# Altium schematic symbol library Schlib1.SchLib: 2 symbols
Pins are listed as number, name and electrical type; pins without a type are passive.

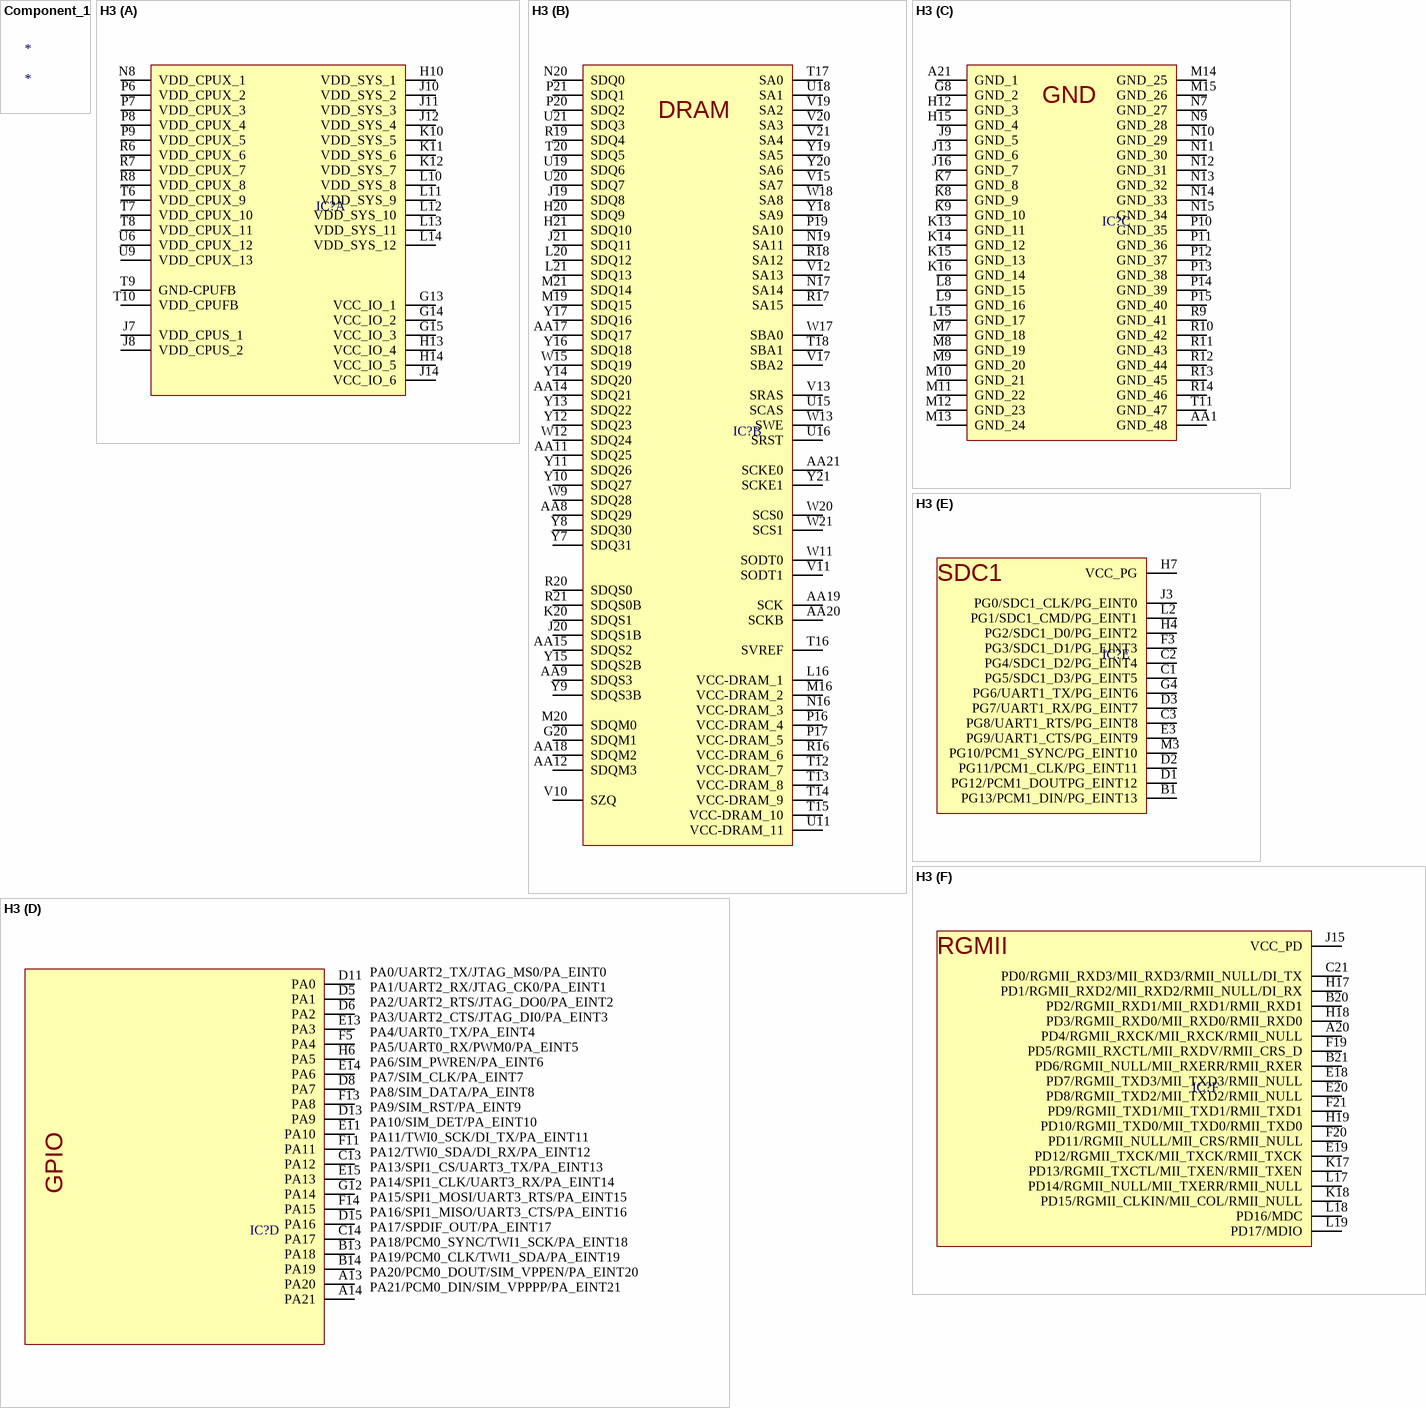
[diagram p0: symbols Component_1 to H3]

## Component_1
designator *

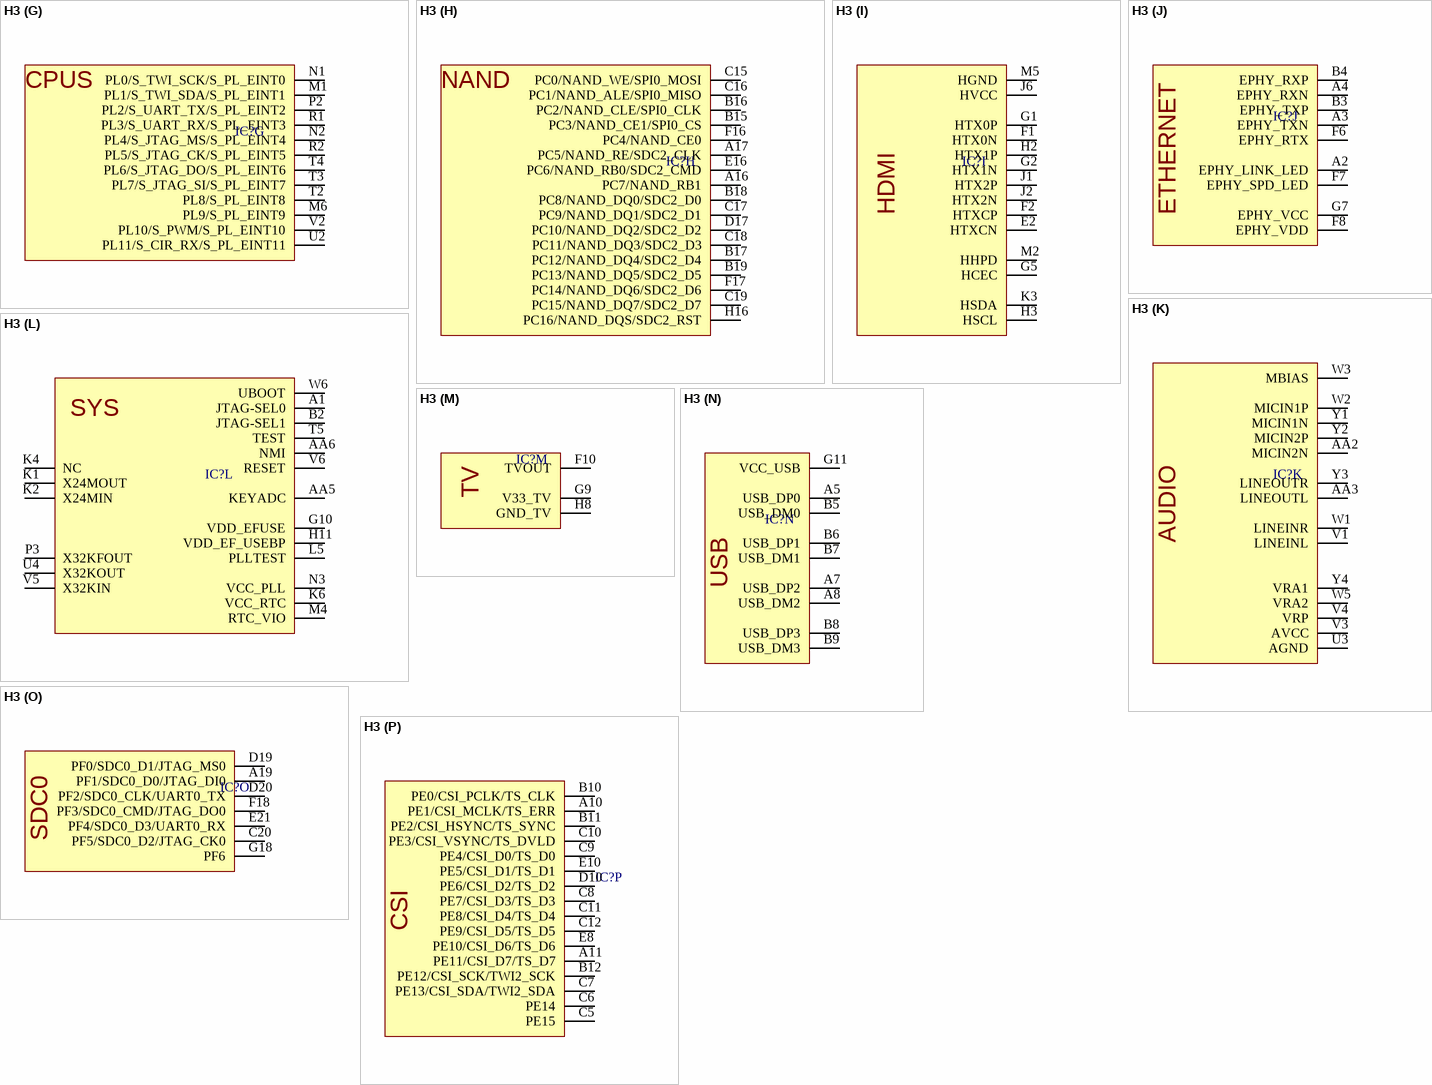
[diagram p1: symbol H3]

## H3
designator IC?
Integrated Circuit; Manufacturer_Name: Allwinner Technology; Datasheet Link: https://wiki.friendlyelec.com/wiki/images/4/4b/Allwinner_H3_Datasheet_V1.2.pdf; Height: 1.18mm; Manufacturer_Part_Number: H3
footprint BGA347C65P21X21_1400X1400X118
part A pins: G13 VCC_IO_1, G14 VCC_IO_2, G15 VCC_IO_3, H10 VDD_SYS_1, H13 VCC_IO_4, H14 VCC_IO_5, J7 VDD_CPUS_1, J8 VDD_CPUS_2, J10 VDD_SYS_2, J11 VDD_SYS_3, J12 VDD_SYS_4, J14 VCC_IO_6, K10 VDD_SYS_5, K11 VDD_SYS_6, K12 VDD_SYS_7, L10 VDD_SYS_8, L11 VDD_SYS_9, L12 VDD_SYS_10, L13 VDD_SYS_11, L14 VDD_SYS_12, N8 VDD_CPUX_1, P6 VDD_CPUX_2, P7 VDD_CPUX_3, P8 VDD_CPUX_4, P9 VDD_CPUX_5, R6 VDD_CPUX_6, R7 VDD_CPUX_7, R8 VDD_CPUX_8, T6 VDD_CPUX_9, T7 VDD_CPUX_10, T8 VDD_CPUX_11, T9 GND-CPUFB, T10 VDD_CPUFB, U6 VDD_CPUX_12, U9 VDD_CPUX_13
part B pins: AA8 SDQ29, AA9 SDQS3, AA11 SDQ25, AA12 SDQM3, AA14 SDQ21, AA15 SDQS2, AA17 SDQ17, AA18 SDQM2, AA19 SCK, AA20 SCKB, AA21 SCKE0, G20 SDQM1, H20 SDQ9, H21 SDQ10, J19 SDQ8, J20 SDQS1B, J21 SDQ11, K20 SDQS1, L16 VCC-DRAM_1, L20 SDQ12, L21 SDQ13, M16 VCC-DRAM_2, M19 SDQ15, M20 SDQM0, M21 SDQ14, N16 VCC-DRAM_3, N17 SA14, N19 SA11, N20 SDQ0, P16 VCC-DRAM_4, P17 VCC-DRAM_5, P19 SA10, P20 SDQ2, P21 SDQ1, R16 VCC-DRAM_6, R17 SA15, R18 SA12, R19 SDQ4, R20 SDQS0, R21 SDQS0B, T12 VCC-DRAM_7, T13 VCC-DRAM_8, T14 VCC-DRAM_9, T15 VCC-DRAM_10, T16 SVREF, T17 SA0, T18 SBA1, T20 SDQ5, U11 VCC-DRAM_11, U15 SCAS, U16 SRST, U18 SA1, U19 SDQ6, U20 SDQ7, U21 SDQ3, V10 SZQ, V11 SODT1, V12 SA13, V13 SRAS, V15 SA7, V17 SBA2, V19 SA2, V20 SA3, V21 SA4, W9 SDQ28, W11 SODT0, W12 SDQ24, W13 SWE, W15 SDQ19, W17 SBA0, W18 SA8, W20 SCS0, W21 SCS1, Y7 SDQ31, Y8 SDQ30, Y9 SDQS3B, Y10 SDQ27, Y11 SDQ26, Y12 SDQ23, Y13 SDQ22, Y14 SDQ20, Y15 SDQS2B, Y16 SDQ18, Y17 SDQ16, Y18 SA9, Y19 SA5, Y20 SA6, Y21 SCKE1
part C pins: A21 GND_1, AA1 GND_48, G8 GND_2, H12 GND_3, H15 GND_4, J9 GND_5, J13 GND_6, J16 GND_7, K7 GND_8, K8 GND_9, K9 GND_10, K13 GND_11, K14 GND_12, K15 GND_13, K16 GND_14, L8 GND_15, L9 GND_16, L15 GND_17, M7 GND_18, M8 GND_19, M9 GND_20, M10 GND_21, M11 GND_22, M12 GND_23, M13 GND_24, M14 GND_25, M15 GND_26, N7 GND_27, N9 GND_28, N10 GND_29, N11 GND_30, N12 GND_31, N13 GND_32, N14 GND_33, N15 GND_34, P10 GND_35, P11 GND_36, P12 GND_37, P13 GND_38, P14 GND_39, P15 GND_40, R9 GND_41, R10 GND_42, R11 GND_43, R12 GND_44, R13 GND_45, R14 GND_46, T11 GND_47
part D pins: A13 PA20, A14 PA21, B13 PA18, B14 PA19, C13 PA12, C14 PA17, D5 PA1, D6 PA2, D8 PA7, D11 PA0, D13 PA9, D15 PA16, E11 PA10, E13 PA3, E14 PA6, E15 PA13, F5 PA4, F11 PA11, F13 PA8, F14 PA15, G12 PA14, H6 PA5
part E pins: B1 PG13/PCM1_DIN/PG_EINT13, C1 PG5/SDC1_D3/PG_EINT5, C2 PG4/SDC1_D2/PG_EINT4, C3 PG8/UART1_RTS/PG_EINT8, D1 PG12/PCM1_DOUTPG_EINT12, D2 PG11/PCM1_CLK/PG_EINT11, D3 PG7/UART1_RX/PG_EINT7, E3 PG9/UART1_CTS/PG_EINT9, F3 PG3/SDC1_D1/PG_EINT3, G4 PG6/UART1_TX/PG_EINT6, H4 PG2/SDC1_D0/PG_EINT2, H7 VCC_PG, J3 PG0/SDC1_CLK/PG_EINT0, L2 PG1/SDC1_CMD/PG_EINT1, M3 PG10/PCM1_SYNC/PG_EINT10
part F pins: A20 PD4/RGMII_RXCK/MII_RXCK/RMII_NULL, B20 PD2/RGMII_RXD1/MII_RXD1/RMII_RXD1, B21 PD6/RGMII_NULL/MII_RXERR/RMII_RXER, C21 PD0/RGMII_RXD3/MII_RXD3/RMII_NULL/DI_TX, E18 PD7/RGMII_TXD3/MII_TXD3/RMII_NULL, E19 PD12/RGMII_TXCK/MII_TXCK/RMII_TXCK, E20 PD8/RGMII_TXD2/MII_TXD2/RMII_NULL, F19 PD5/RGMII_RXCTL/MII_RXDV/RMII_CRS_D, F20 PD11/RGMII_NULL/MII_CRS/RMII_NULL, F21 PD9/RGMII_TXD1/MII_TXD1/RMII_TXD1, H17 PD1/RGMII_RXD2/MII_RXD2/RMII_NULL/DI_RX, H18 PD3/RGMII_RXD0/MII_RXD0/RMII_RXD0, H19 PD10/RGMII_TXD0/MII_TXD0/RMII_TXD0, J15 VCC_PD, K17 PD13/RGMII_TXCTL/MII_TXEN/RMII_TXEN, K18 PD15/RGMII_CLKIN/MII_COL/RMII_NULL, L17 PD14/RGMII_NULL/MII_TXERR/RMII_NULL, L18 PD16/MDC, L19 PD17/MDIO
part G pins: M1 PL1/S_TWI_SDA/S_PL_EINT1, M6 PL9/S_PL_EINT9, N1 PL0/S_TWI_SCK/S_PL_EINT0, N2 PL4/S_JTAG_MS/S_PL_EINT4, P2 PL2/S_UART_TX/S_PL_EINT2, R1 PL3/S_UART_RX/S_PL_EINT3, R2 PL5/S_JTAG_CK/S_PL_EINT5, T2 PL8/S_PL_EINT8, T3 PL7/S_JTAG_SI/S_PL_EINT7, T4 PL6/S_JTAG_DO/S_PL_EINT6, U2 PL11/S_CIR_RX/S_PL_EINT11, V2 PL10/S_PWM/S_PL_EINT10
part H pins: A16 PC7/NAND_RB1, A17 PC5/NAND_RE/SDC2_CLK, B15 PC3/NAND_CE1/SPI0_CS, B16 PC2/NAND_CLE/SPI0_CLK, B17 PC12/NAND_DQ4/SDC2_D4, B18 PC8/NAND_DQ0/SDC2_D0, B19 PC13/NAND_DQ5/SDC2_D5, C15 PC0/NAND_WE/SPI0_MOSI, C16 PC1/NAND_ALE/SPI0_MISO, C17 PC9/NAND_DQ1/SDC2_D1, C18 PC11/NAND_DQ3/SDC2_D3, C19 PC15/NAND_DQ7/SDC2_D7, D17 PC10/NAND_DQ2/SDC2_D2, E16 PC6/NAND_RB0/SDC2_CMD, F16 PC4/NAND_CE0, F17 PC14/NAND_DQ6/SDC2_D6, H16 PC16/NAND_DQS/SDC2_RST
part I pins: E2 HTXCN, F1 HTX0N, F2 HTXCP, G1 HTX0P, G2 HTX1N, G5 HCEC, H2 HTX1P, H3 HSCL, J1 HTX2P, J2 HTX2N, J6 HVCC, K3 HSDA, M2 HHPD, M5 HGND
part J pins: A2 EPHY_LINK_LED, A3 EPHY_TXN, A4 EPHY_RXN, B3 EPHY_TXP, B4 EPHY_RXP, F6 EPHY_RTX, F7 EPHY_SPD_LED, F8 EPHY_VDD, G7 EPHY_VCC
part K pins: AA2 MICIN2N, AA3 LINEOUTL, U3 AGND, V1 LINEINL, V3 AVCC, V4 VRP, W1 LINEINR, W2 MICIN1P, W3 MBIAS, W5 VRA2, Y1 MICIN1N, Y2 MICIN2P, Y3 LINEOUTR, Y4 VRA1
part L pins: A1 JTAG-SEL0, AA5 KEYADC, AA6 NMI, B2 JTAG-SEL1, G10 VDD_EFUSE, H11 VDD_EF_USEBP, K1 X24MOUT, K2 X24MIN, K4 NC, K6 VCC_RTC, L5 PLLTEST, M4 RTC_VIO, N3 VCC_PLL, P3 X32KFOUT, T5 TEST, U4 X32KOUT, V5 X32KIN, V6 RESET, W6 UBOOT
part M pins: F10 TVOUT, G9 V33_TV, H8 GND_TV
part N pins: A5 USB_DP0, A7 USB_DP2, A8 USB_DM2, B5 USB_DM0, B6 USB_DP1, B7 USB_DM1, B8 USB_DP3, B9 USB_DM3, G11 VCC_USB
part O pins: A19 PF1/SDC0_D0/JTAG_DI0, C20 PF5/SDC0_D2/JTAG_CK0, D19 PF0/SDC0_D1/JTAG_MS0, D20 PF2/SDC0_CLK/UART0_TX, E21 PF4/SDC0_D3/UART0_RX, F18 PF3/SDC0_CMD/JTAG_DO0, G18 PF6
part P pins: A10 PE1/CSI_MCLK/TS_ERR, A11 PE11/CSI_D7/TS_D7, B10 PE0/CSI_PCLK/TS_CLK, B11 PE2/CSI_HSYNC/TS_SYNC, B12 PE12/CSI_SCK/TWI2_SCK, C5 PE15, C6 PE14, C7 PE13/CSI_SDA/TWI2_SDA, C8 PE7/CSI_D3/TS_D3, C9 PE4/CSI_D0/TS_D0, C10 PE3/CSI_VSYNC/TS_DVLD, C11 PE8/CSI_D4/TS_D4, C12 PE9/CSI_D5/TS_D5, D10 PE6/CSI_D2/TS_D2, E8 PE10/CSI_D6/TS_D6, E10 PE5/CSI_D1/TS_D1
part B text: DRAM
part C text: GND
part D text: GPIO; PA0/UART2_TX/JTAG_MS0/PA_EINT0 / PA1/UART2_RX/JTAG_CK0/PA_EINT1 / PA2/UART2_RTS/JTAG_DO0/PA_EINT2 / PA3/UART2_CTS/JTAG_DI0/PA_EINT3 / PA4/UART0_TX/PA_EINT4 / PA5/UART0_RX/PWM0/PA_EINT5 / PA6/SIM_PWREN/PA_EINT6 / PA7/SIM_CLK/PA_EINT7 / PA8/SIM_DATA/PA_EINT8 / PA9/SIM_RST/PA_EINT9 / PA10/SIM_DET/PA_EINT10 / PA11/TWI0_SCK/DI_TX/PA_EINT11 / PA12/TWI0_SDA/DI_RX/PA_EINT12 / PA13/SPI1_CS/UART3_TX/PA_EINT13 / PA14/SPI1_CLK/UART3_RX/PA_EINT14 / PA15/SPI1_MOSI/UART3_RTS/PA_EINT15 / PA16/SPI1_MISO/UART3_CTS/PA_EINT16 / PA17/SPDIF_OUT/PA_EINT17 / PA18/PCM0_SYNC/TWI1_SCK/PA_EINT18 / PA19/PCM0_CLK/TWI1_SDA/PA_EINT19 / PA20/PCM0_DOUT/SIM_VPPEN/PA_EINT20 / PA21/PCM0_DIN/SIM_VPPPP/PA_EINT21
part E text: SDC1
part F text: RGMII
part G text: CPUS
part H text: NAND
part I text: HDMI
part J text: ETHERNET
part K text: AUDIO
part L text: SYS
part M text: TV
part N text: USB
part O text: SDC0
part P text: CSI